# EAGLE library part LPCXPRESSO_W_PAD (library bt_LPCXpresso)
NXP LPCXpresso by Embedded Artists LPCXpresso is a new, low-cost development platform available from NXP. It supports NXP's ARM-based LPC microcontrollers. The platform is comprised of a simplified Eclipse-based IDE and low-cost target boards which include an attached JTAG debugger. http://ics.nxp.com/lpcxpresso/ NOTE: This version includes the 37-pin pad on the top of the board
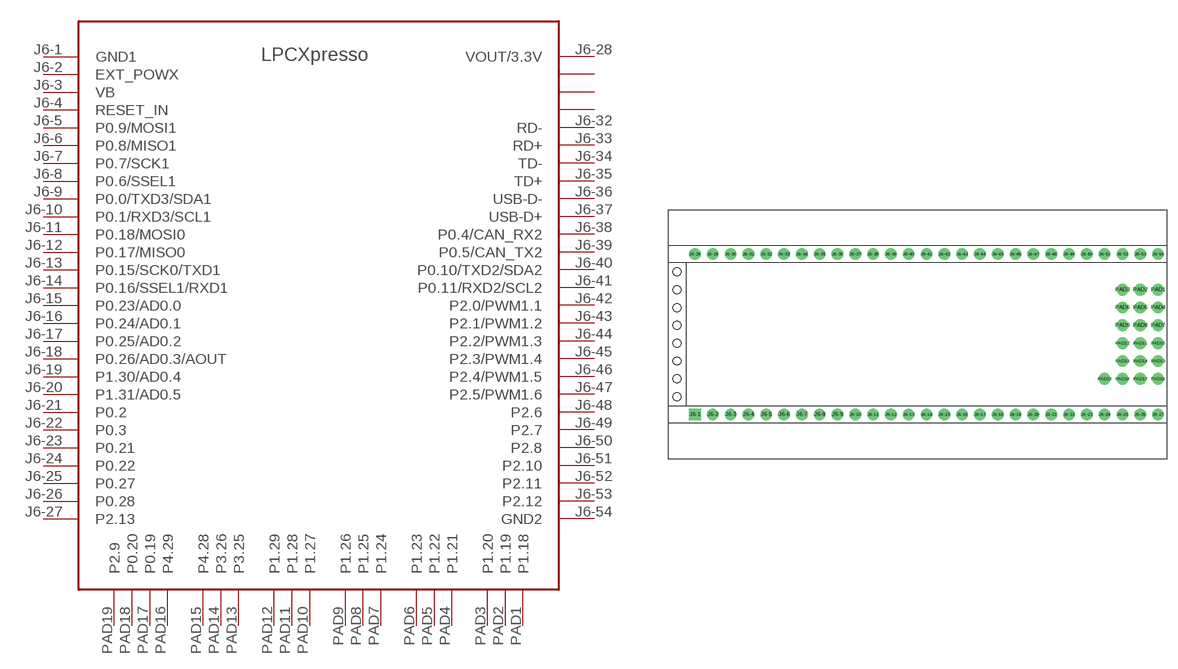
[diagram p0: symbol with the pads of LPCXPRESSO_W_PAD; footprint LPCXPRESSO_W_PAD]

Designator prefix -

## LPCXPRESSO_W_PAD_1769_REVB  [LPCXPRESSO_W_PAD]
J6-1  GND1
J6-2  EXT_POWX
J6-3  VB
J6-4  RESET_IN
J6-5  P0.9/MOSI1
J6-6  P0.8/MISO1
J6-7  P0.7/SCK1
J6-8  P0.6/SSEL1
J6-9  P0.0/TXD3/SDA1
J6-10  P0.1/RXD3/SCL1
J6-11  P0.18/MOSI0
J6-12  P0.17/MISO0
J6-13  P0.15/SCK0/TXD1
J6-14  P0.16/SSEL1/RXD1
J6-15  P0.23/AD0.0
J6-16  P0.24/AD0.1
J6-17  P0.25/AD0.2
J6-18  P0.26/AD0.3/AOUT
J6-19  P1.30/AD0.4
J6-20  P1.31/AD0.5
J6-21  P0.2
J6-22  P0.3
J6-23  P0.21
J6-24  P0.22
J6-25  P0.27
J6-26  P0.28
J6-27  P2.13
J6-28  VOUT/3.3V
J6-29  P$24  nc
J6-30  P$25  nc
J6-31  P$26  nc
J6-32  RD-
J6-33  RD+
J6-34  TD-
J6-35  TD+
J6-36  USB-D-
J6-37  USB-D+
J6-38  P0.4/CAN_RX2
J6-39  P0.5/CAN_TX2
J6-40  P0.10/TXD2/SDA2
J6-41  P0.11/RXD2/SCL2
J6-42  P2.0/PWM1.1
J6-43  P2.1/PWM1.2
J6-44  P2.2/PWM1.3
J6-45  P2.3/PWM1.4
J6-46  P2.4/PWM1.5
J6-47  P2.5/PWM1.6
J6-48  P2.6
J6-49  P2.7
J6-50  P2.8
J6-51  P2.10
J6-52  P2.11
J6-53  P2.12
J6-54  GND2
PAD1  P1.18
PAD2  P1.19
PAD3  P1.20
PAD4  P1.21
PAD5  P1.22
PAD6  P1.23
PAD7  P1.24
PAD8  P1.25
PAD9  P1.26
PAD10  P1.27
PAD11  P1.28
PAD12  P1.29
PAD13  P3.25
PAD14  P3.26
PAD15  P4.28
PAD16  P4.29
PAD17  P0.19
PAD18  P0.20
PAD19  P2.9

## Footprint LPCXPRESSO_W_PAD (pad centres in mm)
drill 0.9 pad 1.676 square: J6-1 -31.75,-11.43
drill 0.9 pad 1.676: J6-2 -29.21,-11.43; J6-3 -26.67,-11.43; J6-4 -24.13,-11.43; J6-5 -21.59,-11.43; J6-6 -19.05,-11.43; J6-7 -16.51,-11.43; J6-8 -13.97,-11.43; J6-9 -11.43,-11.43; J6-10 -8.89,-11.43; J6-11 -6.35,-11.43; J6-12 -3.81,-11.43; J6-13 -1.27,-11.43; J6-14 1.27,-11.43; J6-15 3.81,-11.43; J6-16 6.35,-11.43; J6-17 8.89,-11.43; J6-18 11.43,-11.43; J6-19 13.97,-11.43; J6-20 16.51,-11.43; J6-21 19.05,-11.43; J6-22 21.59,-11.43; J6-23 24.13,-11.43; J6-24 26.67,-11.43; J6-25 29.21,-11.43; J6-26 31.75,-11.43; J6-27 34.29,-11.43; J6-28 -31.75,11.43; J6-29 -29.21,11.43; J6-30 -26.67,11.43; J6-31 -24.13,11.43; J6-32 -21.59,11.43; J6-33 -19.05,11.43; J6-34 -16.51,11.43; J6-35 -13.97,11.43; J6-36 -11.43,11.43; J6-37 -8.89,11.43; J6-38 -6.35,11.43; J6-39 -3.81,11.43; J6-40 -1.27,11.43; J6-41 1.27,11.43; J6-42 3.81,11.43; J6-43 6.35,11.43; J6-44 8.89,11.43; J6-45 11.43,11.43; J6-46 13.97,11.43; J6-47 16.51,11.43; J6-48 19.05,11.43; J6-49 21.59,11.43; J6-50 24.13,11.43; J6-51 26.67,11.43; J6-52 29.21,11.43; J6-53 31.75,11.43; J6-54 34.29,11.43; PAD1 34.29,6.35; PAD2 31.75,6.35; PAD3 29.21,6.35; PAD4 34.29,3.81; PAD5 31.75,3.81; PAD6 29.21,3.81; PAD7 34.29,1.27; PAD8 31.75,1.27; PAD9 29.21,1.27; PAD10 34.29,-1.27; PAD11 31.75,-1.27; PAD12 29.21,-1.27; PAD13 34.29,-3.81; PAD14 31.75,-3.81; PAD15 29.21,-3.81; PAD16 34.29,-6.35; PAD17 31.75,-6.35; PAD18 29.21,-6.35; PAD19 26.67,-6.35